# Altium schematic symbol library Cap_Rubycon_35ZLH100MEFC6_3X11_eec.SchLib: 1 symbol
Pins are listed as number, name and electrical type; pins without a type are passive.

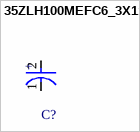
[diagram p0: symbol 35ZLH100MEFC6_3X11]

## 35ZLH100MEFC6_3X11
designator C?  (value not drawn)
pins: 1 C, 2 A
text: +